# Altium footprint library SLH_2805.PcbLib: 1 footprints
Each footprint in its own frame and in the unit in brackets; x right, y up, seen from the top. Pads: shape width x height; smd on the part's side, far side on the other; paste and mask are expansions set on the pad; w line width, h text height; cw(c..) or ccw(c..) is an arc to the next point about the centre after c.
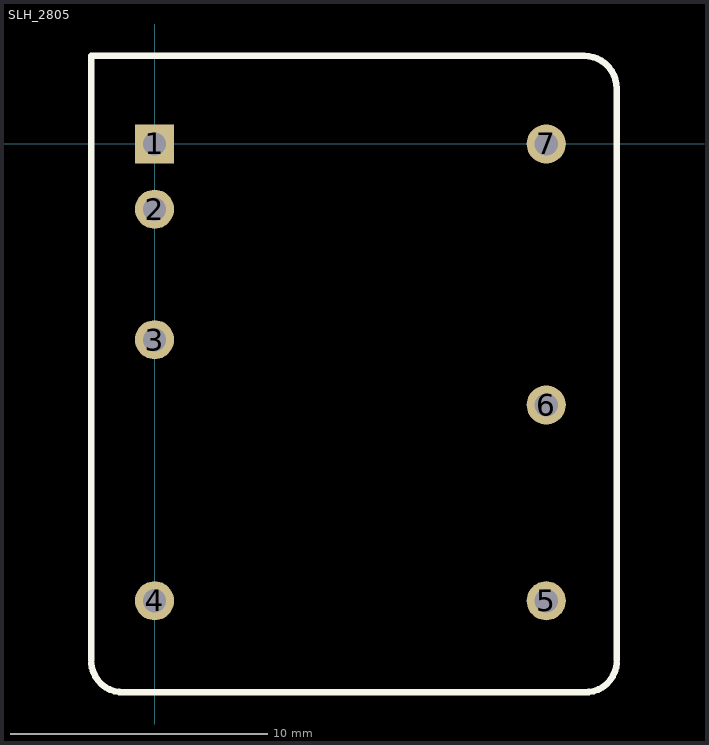
[diagram p0: the footprint, top view; thin cyan lines are the x and y axes]

## SLH_2805 [mil]
pads (7):
  rect 60x60 hole 35.43: 1(0,0)
  round 60 hole 35.43: 2(0,-100) 3(0,-300) 4(0,-700) 5(600,-700) 6(600,-400) 7(600,0)
Top Overlay:
  lines w10: -97,-795 ccw(c-49.5,-792.5) -47,-840 658,-840 ccw(c660.5,-792.5) 708,-795 ; -97,-790 -97,135 658,135 cw(c658,85) 708,85 708,-790
Mechanical 15:
  text "'.Designator'" at 270.33,110.24 h78.74
3D body: height 270, standoff 0, extent -97,-845 708,135